# Altium footprint library components.PcbLib: 1 footprints
Each footprint in its own frame and in the unit in brackets; x right, y up, seen from the top. Pads: shape width x height; smd on the part's side, far side on the other; paste and mask are expansions set on the pad; w line width, h text height; cw(c..) or ccw(c..) is an arc to the next point about the centre after c.
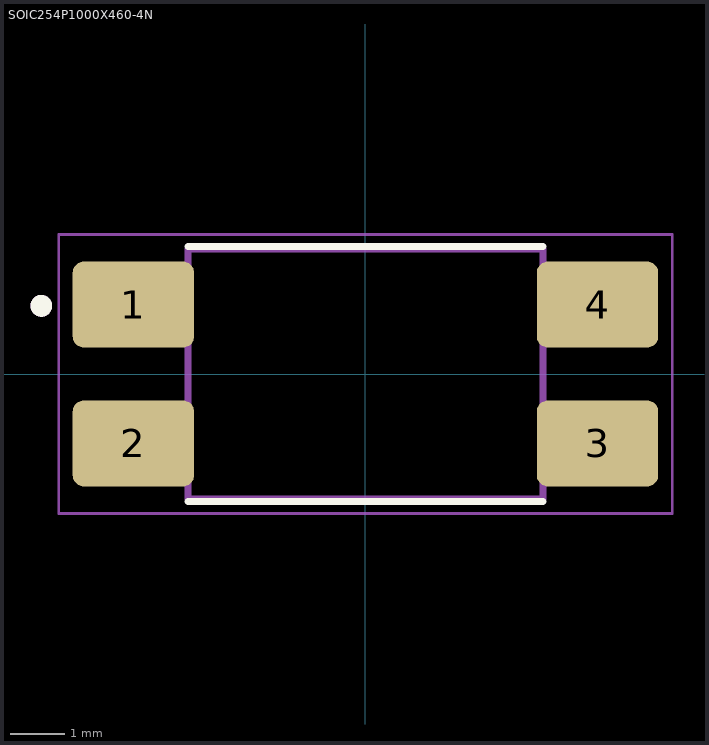
[diagram p0: the footprint, top view; thin cyan lines are the x and y axes]

## SOIC254P1000X460-4N [mm]
pads (4):
  rrect25% 2.22x1.57 smd: 1(-4.245,1.27) 2(-4.245,-1.27) 3(4.245,-1.27) 4(4.245,1.27)
Top Overlay:
  circle w0.2: c-5.93,1.247 r0.1
  lines w0.127: -3.25,-2.33 3.25,-2.33 ; -3.25,2.33 3.25,2.33
Mechanical 13:
  circle w0.2: c-5.93,1.247 r0.1
  lines w0.127: -3.25,-2.29 -3.25,2.29 3.25,2.29 3.25,-2.29 -3.25,-2.29
Mechanical 15:
  lines w0.05: -5.61,-2.55 -5.61,2.55 5.61,2.55 5.61,-2.55 -5.61,-2.55
3D body "step_temp.STEP": height 4, standoff 0, extent -4.875,-2.29 4.875,2.29